# Altium integrated library National Semiconductor MiscPower.IntLib: 1552 symbols (part 26 of 43)
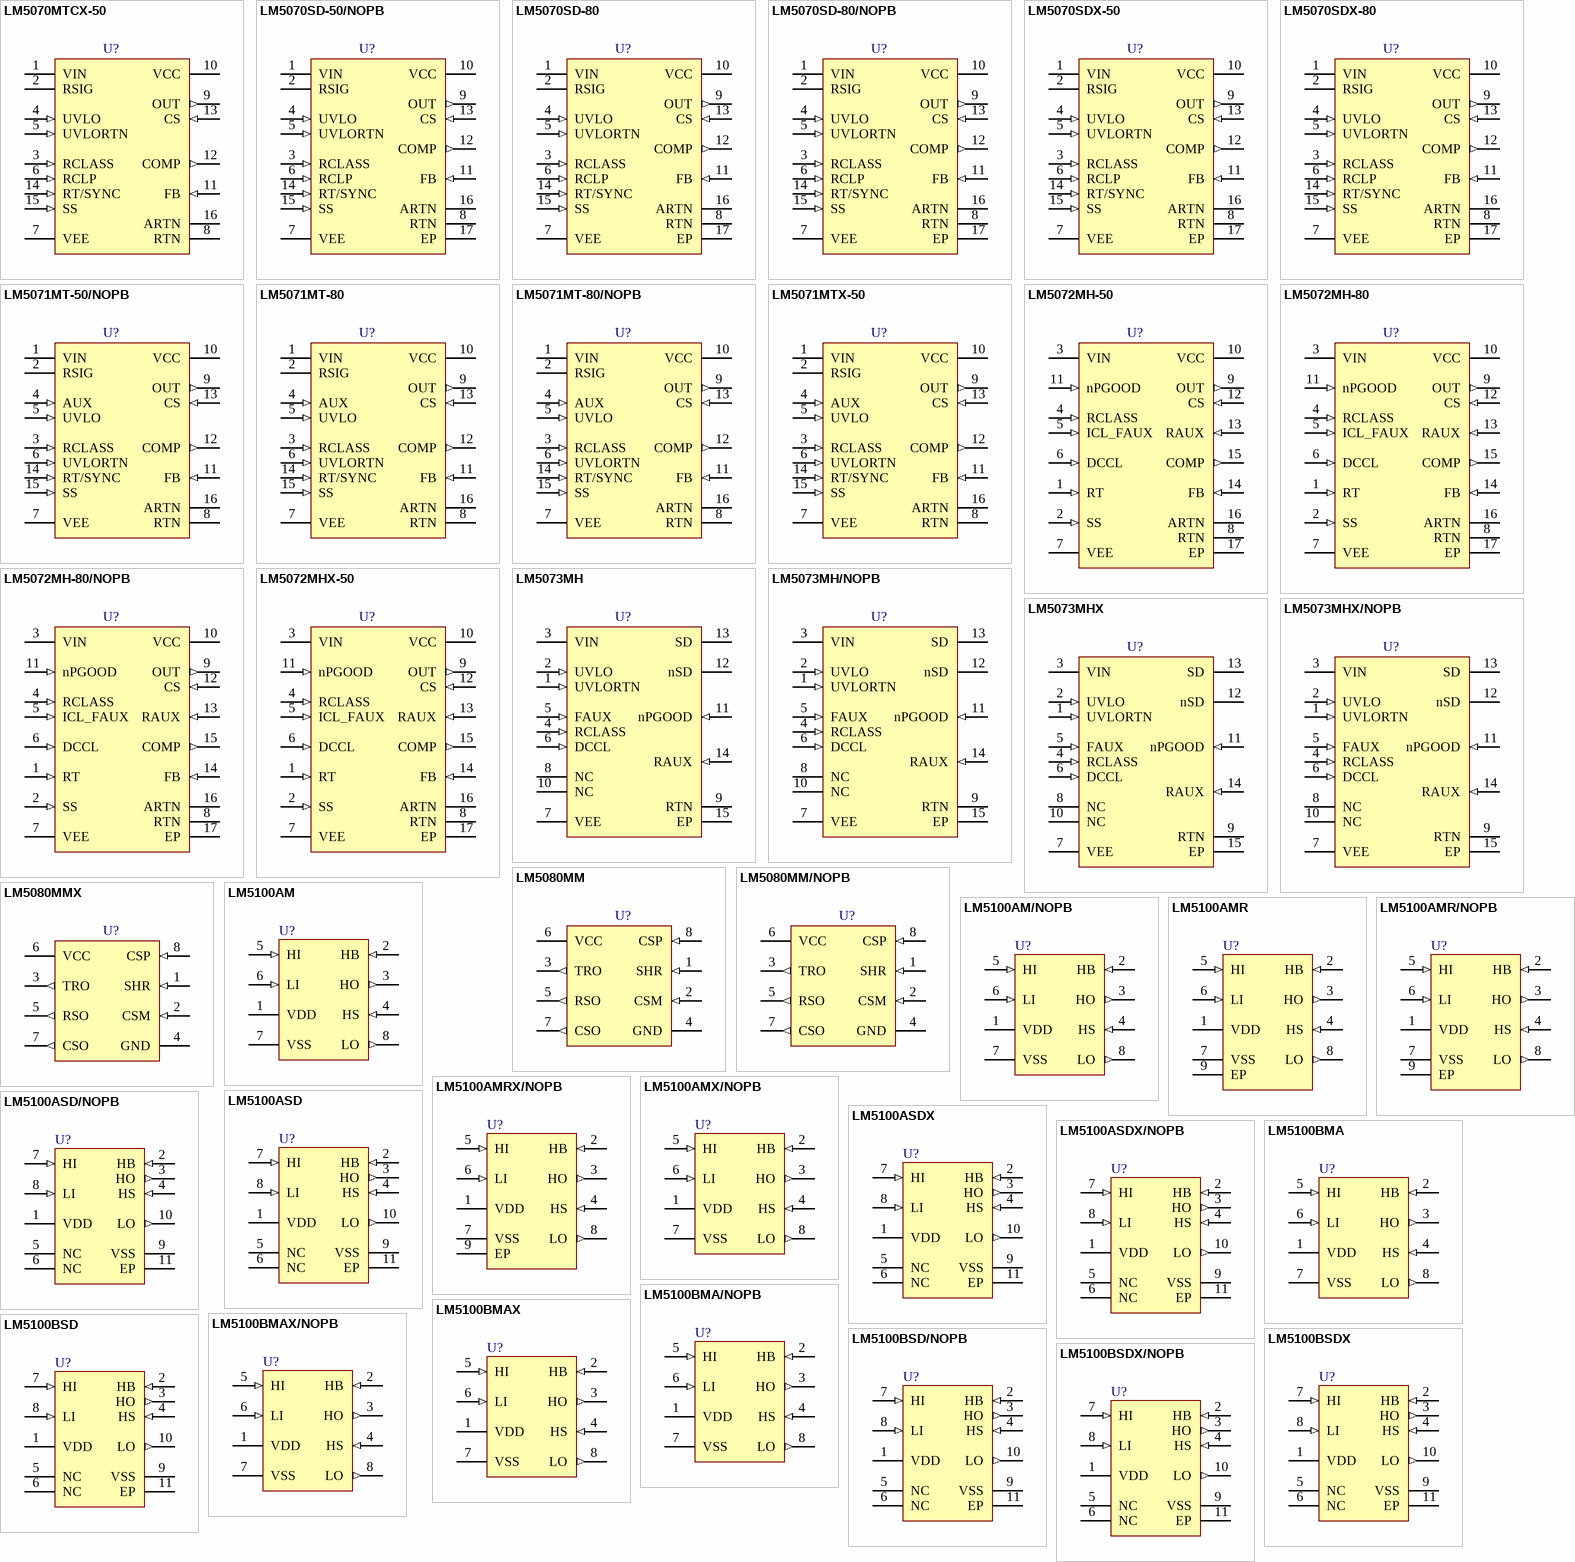
[diagram p82: symbols LM5070MTCX-50 to LM5100BSDX/NOPB]

## LM5073MHX
designator U?
100V Power Over Ethernet PD Interface with Aux Support, 14-pin TSSOP-EP; PartNumber: LM5073MHX; Manufacturer: National Semiconductor; PackageTopMarking: NSUZXYTT*LM5073*MH; PowerWise: Y; CompType: MiscPower; DatasheetVersion: Feb-2010; PackageVersion: revA, Feb-2003; PackageReference: MXA14A; PackageDescription: Molded TSSOP, JEDEC, Exposed Pad, 5.0 x 4.4 x 0.9mm Body, 14 Lead, 0.65mm Pitch; RoHS: N; PinCount: 14; High-Reliability: Y; Code_JEDEC: MO-153-ABT-1; ComponentLink1Description: Manufacturer URL; ComponentLink1URL: http://www.national.com/; ComponentLink2Description: LM5073 Datasheet; ComponentLink2URL: http://www.national.com/ds/LM/LM5073.pdf; ComponentLink3Description: LM5073 Web Page; ComponentLink3URL: http://www.national.com/pf/LM/LM5073.html; ComponentLink4Description: MXA14A Package Page; ComponentLink4URL: http://www.national.com/packaging/folders/mxa14a.html
footprint MXA14A_N (TSOP, 14-Leads, Body 5x4.4mm, Pitch 0.65mm, Thermal Pad, IPC Medium Density)
footprint MXA14A_L (TSOP, 14-Leads, Body 5x4.4mm, Pitch 0.65mm, Thermal Pad, IPC High Density)
footprint MXA14A_M (TSOP, 14-Leads, Body 5x4.4mm, Pitch 0.65mm, Thermal Pad, IPC Low Density)
pins: 1 UVLORTN (in) "Return for the external UVLO programming resistor divider.", 2 UVLO (in) "Line under-voltage lockout programming pin.", 3 VIN (power) "Positive supply pin for the PD interface and the DC-DC converter interface.", 4 RCLASS (in) "PD classification programming pin.", 5 FAUX (in) "Front auxiliary power enable pin.", 6 DCCL (in) "PD interface DC current limit programming pin.", 7 VEE (power) "Negative supply pin for PD interface; connected to PoE and/or front auxiliary power return path.", 8 NC "No internal connection.", 9 RTN (power) "DC-DC converter power return.", 10 NC "No internal connection.", 11 nPGOOD (in) "PD interface Power Good indicator and delay timer pin.", 12 nSD (oc) "Open drain, active low shut down signal to the DC-DC converter.", 13 SD (oc) "Open drain, active high shut down signal to the DC-DC converter.", 14 RAUX (in) "Rear auxiliary power enable pin, and dominant/non-dominant selection.", 15 EP (power) "Exposed metal pad on the underside of the device."

## LM5073MHX/NOPB
designator U?
100V Power Over Ethernet PD Interface with Aux Support, 14-pin TSSOP-EP, Pb-Free; PartNumber: LM5073MHX/NOPB; Manufacturer: National Semiconductor; PackageTopMarking: NSUZXYTT*LM5073*MH; PowerWise: Y; CompType: MiscPower; DatasheetVersion: Feb-2010; PackageVersion: revA, Feb-2003; PackageReference: MXA14A; PackageDescription: Molded TSSOP, JEDEC, Exposed Pad, 5.0 x 4.4 x 0.9mm Body, 14 Lead, 0.65mm Pitch; RoHS: Y; PinCount: 14; High-Reliability: Y; Code_JEDEC: MO-153-ABT-1; ComponentLink1Description: Manufacturer URL; ComponentLink1URL: http://www.national.com/; ComponentLink2Description: LM5073 Datasheet; ComponentLink2URL: http://www.national.com/ds/LM/LM5073.pdf; ComponentLink3Description: LM5073 Web Page; ComponentLink3URL: http://www.national.com/pf/LM/LM5073.html; ComponentLink4Description: MXA14A Package Page; ComponentLink4URL: http://www.national.com/packaging/folders/mxa14a.html
footprint MXA14A_N (TSOP, 14-Leads, Body 5x4.4mm, Pitch 0.65mm, Thermal Pad, IPC Medium Density)
footprint MXA14A_L (TSOP, 14-Leads, Body 5x4.4mm, Pitch 0.65mm, Thermal Pad, IPC High Density)
footprint MXA14A_M (TSOP, 14-Leads, Body 5x4.4mm, Pitch 0.65mm, Thermal Pad, IPC Low Density)
pins: 1 UVLORTN (in) "Return for the external UVLO programming resistor divider.", 2 UVLO (in) "Line under-voltage lockout programming pin.", 3 VIN (power) "Positive supply pin for the PD interface and the DC-DC converter interface.", 4 RCLASS (in) "PD classification programming pin.", 5 FAUX (in) "Front auxiliary power enable pin.", 6 DCCL (in) "PD interface DC current limit programming pin.", 7 VEE (power) "Negative supply pin for PD interface; connected to PoE and/or front auxiliary power return path.", 8 NC "No internal connection.", 9 RTN (power) "DC-DC converter power return.", 10 NC "No internal connection.", 11 nPGOOD (in) "PD interface Power Good indicator and delay timer pin.", 12 nSD (oc) "Open drain, active low shut down signal to the DC-DC converter.", 13 SD (oc) "Open drain, active high shut down signal to the DC-DC converter.", 14 RAUX (in) "Rear auxiliary power enable pin, and dominant/non-dominant selection.", 15 EP (power) "Exposed metal pad on the underside of the device."

## LM5080MM
designator U?
Modular Current Sharing Controller, 8-pin MSOP; PartNumber: LM5080MM; Manufacturer: National Semiconductor; PackageTopMarking: ZXTT*SHUB; PowerWise: N; CompType: MiscPower; High-Reliability: Y; DatasheetVersion: Jan-2006; PackageVersion: revF, Apr-2008; PackageReference: MUA08A; PackageDescription: MINI SOIC, .118 x .118 x .034in, 8 Lead, .0256in Pitch; RoHS: N; PinCount: 8; Code_JEDEC: MO-187-AA; ComponentLink1Description: Manufacturer URL; ComponentLink1URL: http://www.national.com/; ComponentLink2Description: LM5080 Datasheet; ComponentLink2URL: http://www.national.com/ds/LM/LM5080.pdf; ComponentLink3Description: LM5080 Web Page; ComponentLink3URL: http://www.national.com/pf/LM/LM5080.html; ComponentLink4Description: MUA08A Package Page; ComponentLink4URL: http://www.national.com/packaging/folders/mua08a.html
footprint MUA08A_N (TSOP, 8-Leads, Body 3x3mm, Pitch 0.65mm, IPC Medium Density)
footprint MUA08A_L (TSOP, 8-Leads, Body 3x3mm, Pitch 0.65mm, IPC High Density)
footprint MUA08A_M (TSOP, 8-Leads, Body 3x3mm, Pitch 0.65mm, IPC Low Density)
pins: 1 SHR (in), 2 CSM (in), 3 TRO (out), 4 GND (power), 5 RSO (out), 6 VCC (power), 7 CSO (out), 8 CSP (in)

## LM5080MM/NOPB
designator U?
Modular Current Sharing Controller, 8-pin MSOP, Pb-Free; PartNumber: LM5080MM/NOPB; Manufacturer: National Semiconductor; PackageTopMarking: ZXTT*SHUB; PowerWise: N; CompType: MiscPower; High-Reliability: Y; DatasheetVersion: Jan-2006; PackageVersion: revF, Apr-2008; PackageReference: MUA08A; PackageDescription: MINI SOIC, .118 x .118 x .034in, 8 Lead, .0256in Pitch; RoHS: Y; PinCount: 8; Code_JEDEC: MO-187-AA; ComponentLink1Description: Manufacturer URL; ComponentLink1URL: http://www.national.com/; ComponentLink2Description: LM5080 Datasheet; ComponentLink2URL: http://www.national.com/ds/LM/LM5080.pdf; ComponentLink3Description: LM5080 Web Page; ComponentLink3URL: http://www.national.com/pf/LM/LM5080.html; ComponentLink4Description: MUA08A Package Page; ComponentLink4URL: http://www.national.com/packaging/folders/mua08a.html
footprint MUA08A_N (TSOP, 8-Leads, Body 3x3mm, Pitch 0.65mm, IPC Medium Density)
footprint MUA08A_L (TSOP, 8-Leads, Body 3x3mm, Pitch 0.65mm, IPC High Density)
footprint MUA08A_M (TSOP, 8-Leads, Body 3x3mm, Pitch 0.65mm, IPC Low Density)
pins: 1 SHR (in), 2 CSM (in), 3 TRO (out), 4 GND (power), 5 RSO (out), 6 VCC (power), 7 CSO (out), 8 CSP (in)

## LM5080MMX
designator U?
Modular Current Sharing Controller, 8-pin MSOP; PartNumber: LM5080MMX; Manufacturer: National Semiconductor; PackageTopMarking: ZXTT*SHUB; PowerWise: N; CompType: MiscPower; High-Reliability: Y; DatasheetVersion: Jan-2006; PackageVersion: revF, Apr-2008; PackageReference: MUA08A; PackageDescription: MINI SOIC, .118 x .118 x .034in, 8 Lead, .0256in Pitch; RoHS: N; PinCount: 8; Code_JEDEC: MO-187-AA; ComponentLink1Description: Manufacturer URL; ComponentLink1URL: http://www.national.com/; ComponentLink2Description: LM5080 Datasheet; ComponentLink2URL: http://www.national.com/ds/LM/LM5080.pdf; ComponentLink3Description: LM5080 Web Page; ComponentLink3URL: http://www.national.com/pf/LM/LM5080.html; ComponentLink4Description: MUA08A Package Page; ComponentLink4URL: http://www.national.com/packaging/folders/mua08a.html
footprint MUA08A_N (TSOP, 8-Leads, Body 3x3mm, Pitch 0.65mm, IPC Medium Density)
footprint MUA08A_L (TSOP, 8-Leads, Body 3x3mm, Pitch 0.65mm, IPC High Density)
footprint MUA08A_M (TSOP, 8-Leads, Body 3x3mm, Pitch 0.65mm, IPC Low Density)
pins: 1 SHR (in), 2 CSM (in), 3 TRO (out), 4 GND (power), 5 RSO (out), 6 VCC (power), 7 CSO (out), 8 CSP (in)

## LM5100AM
designator U?
3A High Voltage High-Side and Low-Side Gate Driver, 8-pin Narrow SOIC; PartNumber: LM5100AM; Manufacturer: National Semiconductor; PackageTopMarking: NSZXTT*L5100*AM; PowerWise: N; CompType: MiscPower; High-Reliability: Y; DatasheetVersion: Jun-2009; PackageVersion: revM, May-2009; PackageReference: M08A; PackageDescription: SOIC Narrow, 4.9 x 3.9 x 1.45mm, 8 Lead, 1.27mm Pitch; RoHS: N; PinCount: 8; Code_JEDEC: MS-012-AA; Code_IPC: SOIC127P600-8; ComponentLink1Description: Manufacturer URL; ComponentLink1URL: http://www.national.com/; ComponentLink2Description: LM5100A Datasheet; ComponentLink2URL: http://www.national.com/ds/LM/LM5100A.pdf; ComponentLink3Description: LM5100A Web Page; ComponentLink3URL: http://www.national.com/pf/LM/LM5100A.html; ComponentLink4Description: M08A Package Page; ComponentLink4URL: http://www.national.com/packaging/folders/m08a.html
footprint M08A_N (SOIC, 8-Leads, Body 4.9x3.9mm, Pitch 1.27mm, IPC Medium Density)
footprint M08A_L (SOIC, 8-Leads, Body 4.9x3.9mm, Pitch 1.27mm, IPC High Density)
footprint M08A_M (SOIC, 8-Leads, Body 4.9x3.9mm, Pitch 1.27mm, IPC Low Density)
pins: 1 VDD (power), 2 HB (in), 3 HO (out), 4 HS (in), 5 HI (in), 6 LI (in), 7 VSS (power), 8 LO (out)

## LM5100AM/NOPB
designator U?
3A High Voltage High-Side and Low-Side Gate Driver, 8-pin Narrow SOIC, Pb-Free; PartNumber: LM5100AM/NOPB; Manufacturer: National Semiconductor; PackageTopMarking: NSZXTT*L5100*AM; PowerWise: N; CompType: MiscPower; High-Reliability: Y; DatasheetVersion: Jun-2009; PackageVersion: revM, May-2009; PackageReference: M08A; PackageDescription: SOIC Narrow, 4.9 x 3.9 x 1.45mm, 8 Lead, 1.27mm Pitch; RoHS: Y; PinCount: 8; Code_JEDEC: MS-012-AA; Code_IPC: SOIC127P600-8; ComponentLink1Description: Manufacturer URL; ComponentLink1URL: http://www.national.com/; ComponentLink2Description: LM5100A Datasheet; ComponentLink2URL: http://www.national.com/ds/LM/LM5100A.pdf; ComponentLink3Description: LM5100A Web Page; ComponentLink3URL: http://www.national.com/pf/LM/LM5100A.html; ComponentLink4Description: M08A Package Page; ComponentLink4URL: http://www.national.com/packaging/folders/m08a.html
footprint M08A_N (SOIC, 8-Leads, Body 4.9x3.9mm, Pitch 1.27mm, IPC Medium Density)
footprint M08A_L (SOIC, 8-Leads, Body 4.9x3.9mm, Pitch 1.27mm, IPC High Density)
footprint M08A_M (SOIC, 8-Leads, Body 4.9x3.9mm, Pitch 1.27mm, IPC Low Density)
pins: 1 VDD (power), 2 HB (in), 3 HO (out), 4 HS (in), 5 HI (in), 6 LI (in), 7 VSS (power), 8 LO (out)

## LM5100AMR
designator U?
3A High Voltage High-Side and Low-Side Gate Driver, 8-pin PSOP; PartNumber: LM5100AMR; Manufacturer: National Semiconductor; PackageTopMarking: NSXYTT*L5100*AMR; PowerWise: N; CompType: MiscPower; High-Reliability: Y; DatasheetVersion: Jun-2009; PackageVersion: revD, Dec-2007; PackageReference: MRA08A; PackageDescription: Molded, PSOP .193 x .154 x .058in, 8 Lead, .050in Pitch; RoHS: Y; PinCount: 8; Code_JEDEC: MS-012-AA; ComponentLink1Description: Manufacturer URL; ComponentLink1URL: http://www.national.com/; ComponentLink2Description: LM5100A Datasheet; ComponentLink2URL: http://www.national.com/ds/LM/LM5100A.pdf; ComponentLink3Description: LM5100A Web Page; ComponentLink3URL: http://www.national.com/pf/LM/LM5100A.html; ComponentLink4Description: MRA08A Package Page; ComponentLink4URL: http://www.national.com/packaging/folders/mra08a.html
footprint MRA08A_N (SOIC, 8-Leads, Body 4.9x3.9mm, Pitch 1.27mm, Thermal Pad, IPC Medium Density)
footprint MRA08A_L (SOIC, 8-Leads, Body 4.9x3.9mm, Pitch 1.27mm, Thermal Pad, IPC High Density)
footprint MRA08A_M (SOIC, 8-Leads, Body 4.9x3.9mm, Pitch 1.27mm, Thermal Pad, IPC Low Density)
pins: 1 VDD (power), 2 HB (in), 3 HO (out), 4 HS (in), 5 HI (in), 6 LI (in), 7 VSS (power), 8 LO (out), 9 EP (power)

## LM5100AMR/NOPB
designator U?
3A High Voltage High-Side and Low-Side Gate Driver, 8-pin PSOP, Pb-Free; PartNumber: LM5100AMR/NOPB; Manufacturer: National Semiconductor; PackageTopMarking: NSXYTT*L5100*AMR; PowerWise: N; CompType: MiscPower; High-Reliability: Y; DatasheetVersion: Jun-2009; PackageVersion: revD, Dec-2007; PackageReference: MRA08A; PackageDescription: Molded, PSOP .193 x .154 x .058in, 8 Lead, .050in Pitch; RoHS: Y; PinCount: 8; Code_JEDEC: MS-012-AA; ComponentLink1Description: Manufacturer URL; ComponentLink1URL: http://www.national.com/; ComponentLink2Description: LM5100A Datasheet; ComponentLink2URL: http://www.national.com/ds/LM/LM5100A.pdf; ComponentLink3Description: LM5100A Web Page; ComponentLink3URL: http://www.national.com/pf/LM/LM5100A.html; ComponentLink4Description: MRA08A Package Page; ComponentLink4URL: http://www.national.com/packaging/folders/mra08a.html
footprint MRA08A_N (SOIC, 8-Leads, Body 4.9x3.9mm, Pitch 1.27mm, Thermal Pad, IPC Medium Density)
footprint MRA08A_L (SOIC, 8-Leads, Body 4.9x3.9mm, Pitch 1.27mm, Thermal Pad, IPC High Density)
footprint MRA08A_M (SOIC, 8-Leads, Body 4.9x3.9mm, Pitch 1.27mm, Thermal Pad, IPC Low Density)
pins: 1 VDD (power), 2 HB (in), 3 HO (out), 4 HS (in), 5 HI (in), 6 LI (in), 7 VSS (power), 8 LO (out), 9 EP (power)

## LM5100AMRX/NOPB
designator U?
3A High Voltage High-Side and Low-Side Gate Driver, 8-pin PSOP, Pb-Free; PartNumber: LM5100AMRX/NOPB; Manufacturer: National Semiconductor; PackageTopMarking: NSXYTT*L5100*AMR; PowerWise: N; CompType: MiscPower; High-Reliability: Y; DatasheetVersion: Jun-2009; PackageVersion: revD, Dec-2007; PackageReference: MRA08A; PackageDescription: Molded, PSOP .193 x .154 x .058in, 8 Lead, .050in Pitch; RoHS: Y; PinCount: 8; Code_JEDEC: MS-012-AA; ComponentLink1Description: Manufacturer URL; ComponentLink1URL: http://www.national.com/; ComponentLink2Description: LM5100A Datasheet; ComponentLink2URL: http://www.national.com/ds/LM/LM5100A.pdf; ComponentLink3Description: LM5100A Web Page; ComponentLink3URL: http://www.national.com/pf/LM/LM5100A.html; ComponentLink4Description: MRA08A Package Page; ComponentLink4URL: http://www.national.com/packaging/folders/mra08a.html
footprint MRA08A_N (SOIC, 8-Leads, Body 4.9x3.9mm, Pitch 1.27mm, Thermal Pad, IPC Medium Density)
footprint MRA08A_L (SOIC, 8-Leads, Body 4.9x3.9mm, Pitch 1.27mm, Thermal Pad, IPC High Density)
footprint MRA08A_M (SOIC, 8-Leads, Body 4.9x3.9mm, Pitch 1.27mm, Thermal Pad, IPC Low Density)
pins: 1 VDD (power), 2 HB (in), 3 HO (out), 4 HS (in), 5 HI (in), 6 LI (in), 7 VSS (power), 8 LO (out), 9 EP (power)

## LM5100AMX/NOPB
designator U?
3A High Voltage High-Side and Low-Side Gate Driver, 8-pin Narrow SOIC, Pb-Free; PartNumber: LM5100AMX/NOPB; Manufacturer: National Semiconductor; PackageTopMarking: NSZXTT*L5100*AM; PowerWise: N; CompType: MiscPower; High-Reliability: Y; DatasheetVersion: Jun-2009; PackageVersion: revM, May-2009; PackageReference: M08A; PackageDescription: SOIC Narrow, 4.9 x 3.9 x 1.45mm, 8 Lead, 1.27mm Pitch; RoHS: Y; PinCount: 8; Code_JEDEC: MS-012-AA; Code_IPC: SOIC127P600-8; ComponentLink1Description: Manufacturer URL; ComponentLink1URL: http://www.national.com/; ComponentLink2Description: LM5100A Datasheet; ComponentLink2URL: http://www.national.com/ds/LM/LM5100A.pdf; ComponentLink3Description: LM5100A Web Page; ComponentLink3URL: http://www.national.com/pf/LM/LM5100A.html; ComponentLink4Description: M08A Package Page; ComponentLink4URL: http://www.national.com/packaging/folders/m08a.html
footprint M08A_N (SOIC, 8-Leads, Body 4.9x3.9mm, Pitch 1.27mm, IPC Medium Density)
footprint M08A_L (SOIC, 8-Leads, Body 4.9x3.9mm, Pitch 1.27mm, IPC High Density)
footprint M08A_M (SOIC, 8-Leads, Body 4.9x3.9mm, Pitch 1.27mm, IPC Low Density)
pins: 1 VDD (power), 2 HB (in), 3 HO (out), 4 HS (in), 5 HI (in), 6 LI (in), 7 VSS (power), 8 LO (out)

## LM5100ASD
designator U?
3A High Voltage High-Side and Low-Side Gate Driver, 10-pin LLP; PartNumber: LM5100ASD; Manufacturer: National Semiconductor; PackageTopMarking: NS*UZXYTT*5100ASD; PowerWise: N; CompType: MiscPower; High-Reliability: Y; DatasheetVersion: Jun-2009; PackageVersion: revA, May-2003; PackageReference: SDC10A; PackageDescription: LLP, Plastic, Dual, 4 x 4 x 0.8mm Body, 10 Lead, 0.8mm Pitch, No Pullback; RoHS: N; PinCount: 10; ComponentLink1Description: Manufacturer URL; ComponentLink1URL: http://www.national.com/; ComponentLink2Description: LM5100A Datasheet; ComponentLink2URL: http://www.national.com/ds/LM/LM5100A.pdf; ComponentLink3Description: LM5100A Web Page; ComponentLink3URL: http://www.national.com/pf/LM/LM5100A.html; ComponentLink4Description: SDC10A Package Page; ComponentLink4URL: http://www.national.com/packaging/folders/sdc10a.html
footprint SDC10A (SON, 10-Leads, Body 4x4 mm, Pitch 0.8mm, NSC Recommended)
pins: 1 VDD (power), 2 HB (in), 3 HO (out), 4 HS (in), 5 NC, 6 NC, 7 HI (in), 8 LI (in), 9 VSS (power), 10 LO (out), 11 EP (power)

## LM5100ASD/NOPB
designator U?
3A High Voltage High-Side and Low-Side Gate Driver, 10-pin LLP, Pb-Free; PartNumber: LM5100ASD/NOPB; Manufacturer: National Semiconductor; PackageTopMarking: NS*UZXYTT*5100ASD; PowerWise: N; CompType: MiscPower; High-Reliability: Y; DatasheetVersion: Jun-2009; PackageVersion: revA, May-2003; PackageReference: SDC10A; PackageDescription: LLP, Plastic, Dual, 4 x 4 x 0.8mm Body, 10 Lead, 0.8mm Pitch, No Pullback; RoHS: Y; PinCount: 10; ComponentLink1Description: Manufacturer URL; ComponentLink1URL: http://www.national.com/; ComponentLink2Description: LM5100A Datasheet; ComponentLink2URL: http://www.national.com/ds/LM/LM5100A.pdf; ComponentLink3Description: LM5100A Web Page; ComponentLink3URL: http://www.national.com/pf/LM/LM5100A.html; ComponentLink4Description: SDC10A Package Page; ComponentLink4URL: http://www.national.com/packaging/folders/sdc10a.html
footprint SDC10A (SON, 10-Leads, Body 4x4 mm, Pitch 0.8mm, NSC Recommended)
pins: 1 VDD (power), 2 HB (in), 3 HO (out), 4 HS (in), 5 NC, 6 NC, 7 HI (in), 8 LI (in), 9 VSS (power), 10 LO (out), 11 EP (power)

## LM5100ASDX
designator U?
3A High Voltage High-Side and Low-Side Gate Driver, 10-pin LLP; PartNumber: LM5100ASDX; Manufacturer: National Semiconductor; PackageTopMarking: NS*UZXYTT*5100ASD; PowerWise: N; CompType: MiscPower; High-Reliability: Y; DatasheetVersion: Jun-2009; PackageVersion: revA, May-2003; PackageReference: SDC10A; PackageDescription: LLP, Plastic, Dual, 4 x 4 x 0.8mm Body, 10 Lead, 0.8mm Pitch, No Pullback; RoHS: N; PinCount: 10; ComponentLink1Description: Manufacturer URL; ComponentLink1URL: http://www.national.com/; ComponentLink2Description: LM5100A Datasheet; ComponentLink2URL: http://www.national.com/ds/LM/LM5100A.pdf; ComponentLink3Description: LM5100A Web Page; ComponentLink3URL: http://www.national.com/pf/LM/LM5100A.html; ComponentLink4Description: SDC10A Package Page; ComponentLink4URL: http://www.national.com/packaging/folders/sdc10a.html
footprint SDC10A (SON, 10-Leads, Body 4x4 mm, Pitch 0.8mm, NSC Recommended)
pins: 1 VDD (power), 2 HB (in), 3 HO (out), 4 HS (in), 5 NC, 6 NC, 7 HI (in), 8 LI (in), 9 VSS (power), 10 LO (out), 11 EP (power)

## LM5100ASDX/NOPB
designator U?
3A High Voltage High-Side and Low-Side Gate Driver, 10-pin LLP, Pb-Free; PartNumber: LM5100ASDX/NOPB; Manufacturer: National Semiconductor; PackageTopMarking: NS*UZXYTT*5100ASD; PowerWise: N; CompType: MiscPower; High-Reliability: Y; DatasheetVersion: Jun-2009; PackageVersion: revA, May-2003; PackageReference: SDC10A; PackageDescription: LLP, Plastic, Dual, 4 x 4 x 0.8mm Body, 10 Lead, 0.8mm Pitch, No Pullback; RoHS: Y; PinCount: 10; ComponentLink1Description: Manufacturer URL; ComponentLink1URL: http://www.national.com/; ComponentLink2Description: LM5100A Datasheet; ComponentLink2URL: http://www.national.com/ds/LM/LM5100A.pdf; ComponentLink3Description: LM5100A Web Page; ComponentLink3URL: http://www.national.com/pf/LM/LM5100A.html; ComponentLink4Description: SDC10A Package Page; ComponentLink4URL: http://www.national.com/packaging/folders/sdc10a.html
footprint SDC10A (SON, 10-Leads, Body 4x4 mm, Pitch 0.8mm, NSC Recommended)
pins: 1 VDD (power), 2 HB (in), 3 HO (out), 4 HS (in), 5 NC, 6 NC, 7 HI (in), 8 LI (in), 9 VSS (power), 10 LO (out), 11 EP (power)

## LM5100BMA
designator U?
2A High Voltage High-Side and Low-Side Gate Driver, 8-pin Narrow SOIC; PartNumber: LM5100BMA; Manufacturer: National Semiconductor; PackageTopMarking: NSZXTT*L5100*BMA; PowerWise: N; CompType: MiscPower; High-Reliability: Y; DatasheetVersion: Jun-2009; PackageVersion: revM, May-2009; PackageReference: M08A; PackageDescription: SOIC Narrow, 4.9 x 3.9 x 1.45mm, 8 Lead, 1.27mm Pitch; RoHS: N; PinCount: 8; Code_JEDEC: MS-012-AA; Code_IPC: SOIC127P600-8; ComponentLink1Description: Manufacturer URL; ComponentLink1URL: http://www.national.com/; ComponentLink2Description: LM5100B Datasheet; ComponentLink2URL: http://www.national.com/ds/LM/LM5100B.pdf; ComponentLink3Description: LM5100B Web Page; ComponentLink3URL: http://www.national.com/pf/LM/LM5100B.html; ComponentLink4Description: M08A Package Page; ComponentLink4URL: http://www.national.com/packaging/folders/m08a.html
footprint M08A_N (SOIC, 8-Leads, Body 4.9x3.9mm, Pitch 1.27mm, IPC Medium Density)
footprint M08A_L (SOIC, 8-Leads, Body 4.9x3.9mm, Pitch 1.27mm, IPC High Density)
footprint M08A_M (SOIC, 8-Leads, Body 4.9x3.9mm, Pitch 1.27mm, IPC Low Density)
pins: 1 VDD (power), 2 HB (in), 3 HO (out), 4 HS (in), 5 HI (in), 6 LI (in), 7 VSS (power), 8 LO (out)

## LM5100BMA/NOPB
designator U?
2A High Voltage High-Side and Low-Side Gate Driver, 8-pin Narrow SOIC, Pb-Free; PartNumber: LM5100BMA/NOPB; Manufacturer: National Semiconductor; PackageTopMarking: NSZXTT*L5100*BMA; PowerWise: N; CompType: MiscPower; High-Reliability: Y; DatasheetVersion: Jun-2009; PackageVersion: revM, May-2009; PackageReference: M08A; PackageDescription: SOIC Narrow, 4.9 x 3.9 x 1.45mm, 8 Lead, 1.27mm Pitch; RoHS: Y; PinCount: 8; Code_JEDEC: MS-012-AA; Code_IPC: SOIC127P600-8; ComponentLink1Description: Manufacturer URL; ComponentLink1URL: http://www.national.com/; ComponentLink2Description: LM5100B Datasheet; ComponentLink2URL: http://www.national.com/ds/LM/LM5100B.pdf; ComponentLink3Description: LM5100B Web Page; ComponentLink3URL: http://www.national.com/pf/LM/LM5100B.html; ComponentLink4Description: M08A Package Page; ComponentLink4URL: http://www.national.com/packaging/folders/m08a.html
footprint M08A_N (SOIC, 8-Leads, Body 4.9x3.9mm, Pitch 1.27mm, IPC Medium Density)
footprint M08A_L (SOIC, 8-Leads, Body 4.9x3.9mm, Pitch 1.27mm, IPC High Density)
footprint M08A_M (SOIC, 8-Leads, Body 4.9x3.9mm, Pitch 1.27mm, IPC Low Density)
pins: 1 VDD (power), 2 HB (in), 3 HO (out), 4 HS (in), 5 HI (in), 6 LI (in), 7 VSS (power), 8 LO (out)

## LM5100BMAX
designator U?
2A High Voltage High-Side and Low-Side Gate Driver, 8-pin Narrow SOIC; PartNumber: LM5100BMAX; Manufacturer: National Semiconductor; PackageTopMarking: NSZXTT*L5100*BMA; PowerWise: N; CompType: MiscPower; High-Reliability: Y; DatasheetVersion: Jun-2009; PackageVersion: revM, May-2009; PackageReference: M08A; PackageDescription: SOIC Narrow, 4.9 x 3.9 x 1.45mm, 8 Lead, 1.27mm Pitch; RoHS: N; PinCount: 8; Code_JEDEC: MS-012-AA; Code_IPC: SOIC127P600-8; ComponentLink1Description: Manufacturer URL; ComponentLink1URL: http://www.national.com/; ComponentLink2Description: LM5100B Datasheet; ComponentLink2URL: http://www.national.com/ds/LM/LM5100B.pdf; ComponentLink3Description: LM5100B Web Page; ComponentLink3URL: http://www.national.com/pf/LM/LM5100B.html; ComponentLink4Description: M08A Package Page; ComponentLink4URL: http://www.national.com/packaging/folders/m08a.html
footprint M08A_N (SOIC, 8-Leads, Body 4.9x3.9mm, Pitch 1.27mm, IPC Medium Density)
footprint M08A_L (SOIC, 8-Leads, Body 4.9x3.9mm, Pitch 1.27mm, IPC High Density)
footprint M08A_M (SOIC, 8-Leads, Body 4.9x3.9mm, Pitch 1.27mm, IPC Low Density)
pins: 1 VDD (power), 2 HB (in), 3 HO (out), 4 HS (in), 5 HI (in), 6 LI (in), 7 VSS (power), 8 LO (out)

## LM5100BMAX/NOPB
designator U?
2A High Voltage High-Side and Low-Side Gate Driver, 8-pin Narrow SOIC, Pb-Free; PartNumber: LM5100BMAX/NOPB; Manufacturer: National Semiconductor; PackageTopMarking: NSZXTT*L5100*BMA; PowerWise: N; CompType: MiscPower; High-Reliability: Y; DatasheetVersion: Jun-2009; PackageVersion: revM, May-2009; PackageReference: M08A; PackageDescription: SOIC Narrow, 4.9 x 3.9 x 1.45mm, 8 Lead, 1.27mm Pitch; RoHS: Y; PinCount: 8; Code_JEDEC: MS-012-AA; Code_IPC: SOIC127P600-8; ComponentLink1Description: Manufacturer URL; ComponentLink1URL: http://www.national.com/; ComponentLink2Description: LM5100B Datasheet; ComponentLink2URL: http://www.national.com/ds/LM/LM5100B.pdf; ComponentLink3Description: LM5100B Web Page; ComponentLink3URL: http://www.national.com/pf/LM/LM5100B.html; ComponentLink4Description: M08A Package Page; ComponentLink4URL: http://www.national.com/packaging/folders/m08a.html
footprint M08A_N (SOIC, 8-Leads, Body 4.9x3.9mm, Pitch 1.27mm, IPC Medium Density)
footprint M08A_L (SOIC, 8-Leads, Body 4.9x3.9mm, Pitch 1.27mm, IPC High Density)
footprint M08A_M (SOIC, 8-Leads, Body 4.9x3.9mm, Pitch 1.27mm, IPC Low Density)
pins: 1 VDD (power), 2 HB (in), 3 HO (out), 4 HS (in), 5 HI (in), 6 LI (in), 7 VSS (power), 8 LO (out)

## LM5100BSD
designator U?
2A High Voltage High-Side and Low-Side Gate Driver, 10-pin LLP; PartNumber: LM5100BSD; Manufacturer: National Semiconductor; PackageTopMarking: NS*UZXYTT*5100BSD; PowerWise: N; CompType: MiscPower; High-Reliability: Y; DatasheetVersion: Jun-2009; PackageVersion: revA, May-2003; PackageReference: SDC10A; PackageDescription: LLP, Plastic, Dual, 4 x 4 x 0.8mm Body, 10 Lead, 0.8mm Pitch, No Pullback; RoHS: N; PinCount: 10; ComponentLink1Description: Manufacturer URL; ComponentLink1URL: http://www.national.com/; ComponentLink2Description: LM5100B Datasheet; ComponentLink2URL: http://www.national.com/ds/LM/LM5100B.pdf; ComponentLink3Description: LM5100B Web Page; ComponentLink3URL: http://www.national.com/pf/LM/LM5100B.html; ComponentLink4Description: SDC10A Package Page; ComponentLink4URL: http://www.national.com/packaging/folders/sdc10a.html
footprint SDC10A (SON, 10-Leads, Body 4x4 mm, Pitch 0.8mm, NSC Recommended)
pins: 1 VDD (power), 2 HB (in), 3 HO (out), 4 HS (in), 5 NC, 6 NC, 7 HI (in), 8 LI (in), 9 VSS (power), 10 LO (out), 11 EP (power)

## LM5100BSD/NOPB
designator U?
2A High Voltage High-Side and Low-Side Gate Driver, 10-pin LLP, Pb-Free; PartNumber: LM5100BSD/NOPB; Manufacturer: National Semiconductor; PackageTopMarking: NS*UZXYTT*5100BSD; PowerWise: N; CompType: MiscPower; High-Reliability: Y; DatasheetVersion: Jun-2009; PackageVersion: revA, May-2003; PackageReference: SDC10A; PackageDescription: LLP, Plastic, Dual, 4 x 4 x 0.8mm Body, 10 Lead, 0.8mm Pitch, No Pullback; RoHS: Y; PinCount: 10; ComponentLink1Description: Manufacturer URL; ComponentLink1URL: http://www.national.com/; ComponentLink2Description: LM5100B Datasheet; ComponentLink2URL: http://www.national.com/ds/LM/LM5100B.pdf; ComponentLink3Description: LM5100B Web Page; ComponentLink3URL: http://www.national.com/pf/LM/LM5100B.html; ComponentLink4Description: SDC10A Package Page; ComponentLink4URL: http://www.national.com/packaging/folders/sdc10a.html
footprint SDC10A (SON, 10-Leads, Body 4x4 mm, Pitch 0.8mm, NSC Recommended)
pins: 1 VDD (power), 2 HB (in), 3 HO (out), 4 HS (in), 5 NC, 6 NC, 7 HI (in), 8 LI (in), 9 VSS (power), 10 LO (out), 11 EP (power)

## LM5100BSDX
designator U?
2A High Voltage High-Side and Low-Side Gate Driver, 10-pin LLP; PartNumber: LM5100BSDX; Manufacturer: National Semiconductor; PackageTopMarking: NS*UZXYTT*5100BSD; PowerWise: N; CompType: MiscPower; High-Reliability: Y; DatasheetVersion: Jun-2009; PackageVersion: revA, May-2003; PackageReference: SDC10A; PackageDescription: LLP, Plastic, Dual, 4 x 4 x 0.8mm Body, 10 Lead, 0.8mm Pitch, No Pullback; RoHS: N; PinCount: 10; ComponentLink1Description: Manufacturer URL; ComponentLink1URL: http://www.national.com/; ComponentLink2Description: LM5100B Datasheet; ComponentLink2URL: http://www.national.com/ds/LM/LM5100B.pdf; ComponentLink3Description: LM5100B Web Page; ComponentLink3URL: http://www.national.com/pf/LM/LM5100B.html; ComponentLink4Description: SDC10A Package Page; ComponentLink4URL: http://www.national.com/packaging/folders/sdc10a.html
footprint SDC10A (SON, 10-Leads, Body 4x4 mm, Pitch 0.8mm, NSC Recommended)
pins: 1 VDD (power), 2 HB (in), 3 HO (out), 4 HS (in), 5 NC, 6 NC, 7 HI (in), 8 LI (in), 9 VSS (power), 10 LO (out), 11 EP (power)

## LM5100BSDX/NOPB
designator U?
2A High Voltage High-Side and Low-Side Gate Driver, 10-pin LLP, Pb-Free; PartNumber: LM5100BSDX/NOPB; Manufacturer: National Semiconductor; PackageTopMarking: NS*UZXYTT*5100BSD; PowerWise: N; CompType: MiscPower; High-Reliability: Y; DatasheetVersion: Jun-2009; PackageVersion: revA, May-2003; PackageReference: SDC10A; PackageDescription: LLP, Plastic, Dual, 4 x 4 x 0.8mm Body, 10 Lead, 0.8mm Pitch, No Pullback; RoHS: Y; PinCount: 10; ComponentLink1Description: Manufacturer URL; ComponentLink1URL: http://www.national.com/; ComponentLink2Description: LM5100B Datasheet; ComponentLink2URL: http://www.national.com/ds/LM/LM5100B.pdf; ComponentLink3Description: LM5100B Web Page; ComponentLink3URL: http://www.national.com/pf/LM/LM5100B.html; ComponentLink4Description: SDC10A Package Page; ComponentLink4URL: http://www.national.com/packaging/folders/sdc10a.html
footprint SDC10A (SON, 10-Leads, Body 4x4 mm, Pitch 0.8mm, NSC Recommended)
pins: 1 VDD (power), 2 HB (in), 3 HO (out), 4 HS (in), 5 NC, 6 NC, 7 HI (in), 8 LI (in), 9 VSS (power), 10 LO (out), 11 EP (power)

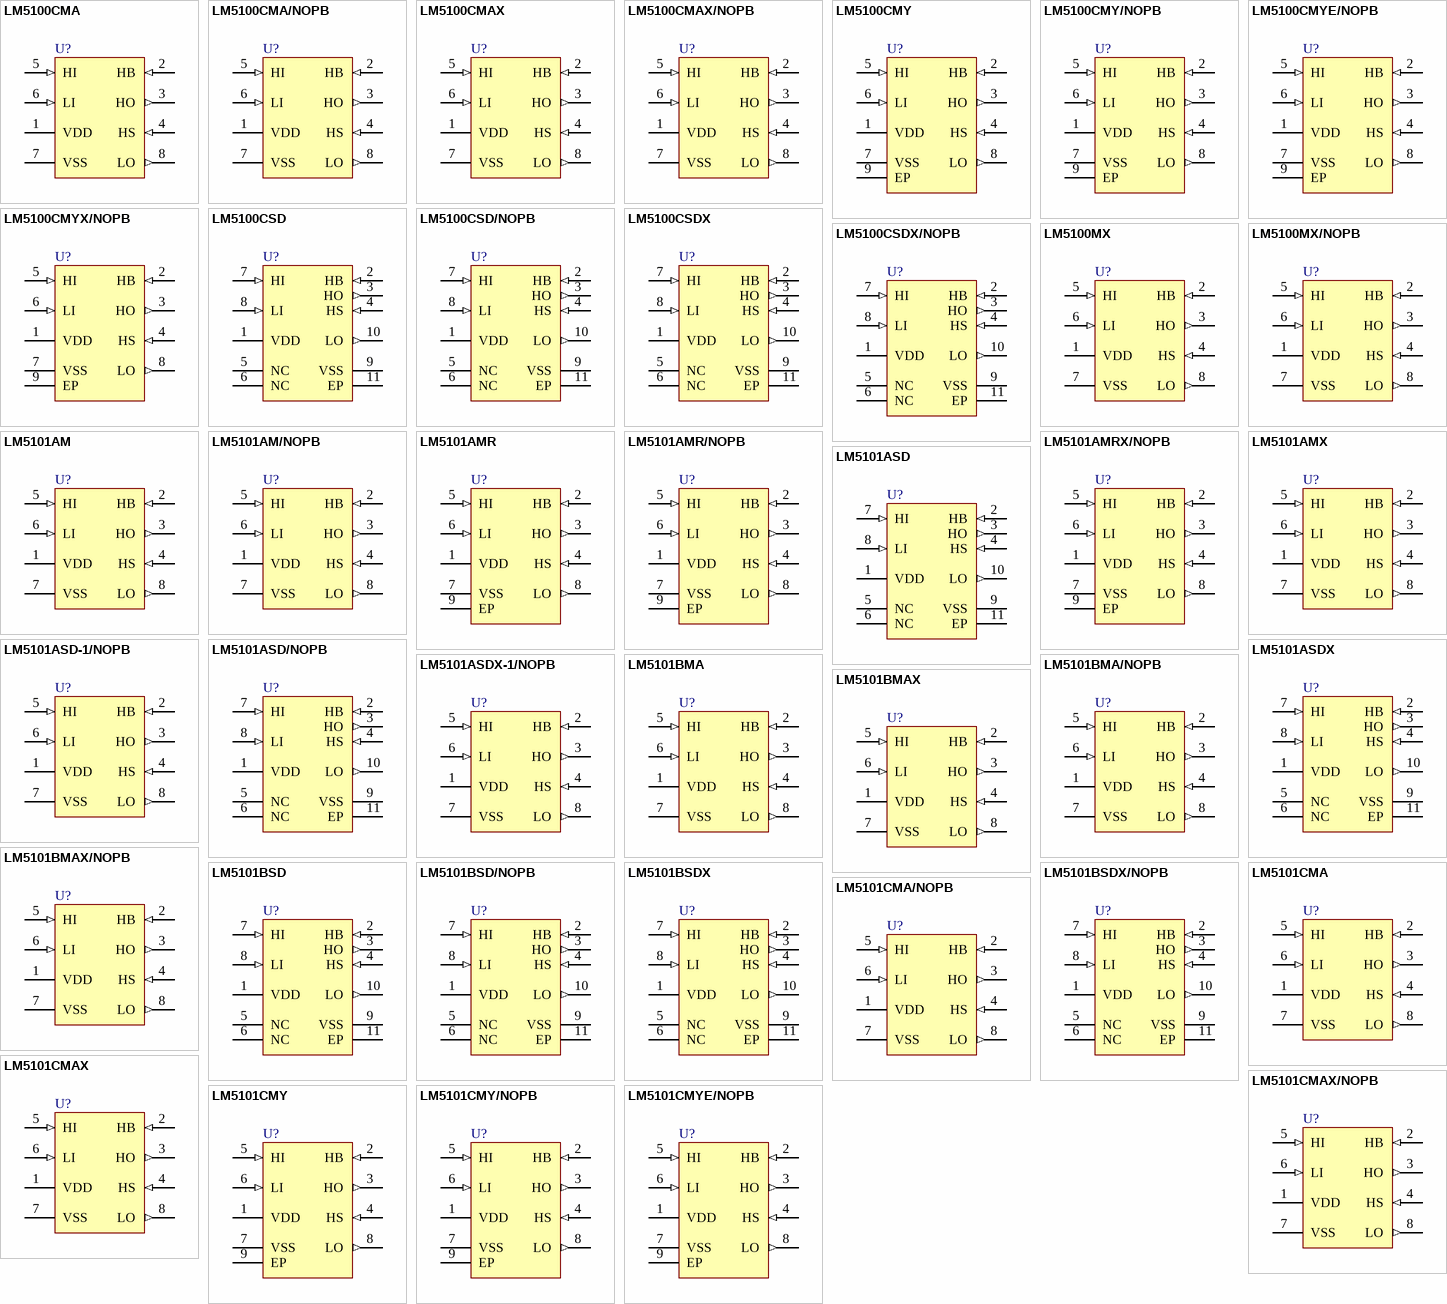
[diagram p29: symbols LM5100CMA to LM5101CMYE/NOPB]

## LM5100CMA
designator U?
1A High Voltage High-Side and Low-Side Gate Driver, 8-pin Narrow SOIC; PartNumber: LM5100CMA; Manufacturer: National Semiconductor; PackageTopMarking: NSZXTT*L5100*CMA; PowerWise: N; CompType: MiscPower; High-Reliability: Y; DatasheetVersion: Jun-2009; PackageVersion: revM, May-2009; PackageReference: M08A; PackageDescription: SOIC Narrow, 4.9 x 3.9 x 1.45mm, 8 Lead, 1.27mm Pitch; RoHS: N; PinCount: 8; Code_JEDEC: MS-012-AA; Code_IPC: SOIC127P600-8; ComponentLink1Description: Manufacturer URL; ComponentLink1URL: http://www.national.com/; ComponentLink2Description: LM5100C Datasheet; ComponentLink2URL: http://www.national.com/ds/LM/LM5100C.pdf; ComponentLink3Description: LM5100C Web Page; ComponentLink3URL: http://www.national.com/pf/LM/LM5100C.html; ComponentLink4Description: M08A Package Page; ComponentLink4URL: http://www.national.com/packaging/folders/m08a.html
footprint M08A_N (SOIC, 8-Leads, Body 4.9x3.9mm, Pitch 1.27mm, IPC Medium Density)
footprint M08A_L (SOIC, 8-Leads, Body 4.9x3.9mm, Pitch 1.27mm, IPC High Density)
footprint M08A_M (SOIC, 8-Leads, Body 4.9x3.9mm, Pitch 1.27mm, IPC Low Density)
pins: 1 VDD (power), 2 HB (in), 3 HO (out), 4 HS (in), 5 HI (in), 6 LI (in), 7 VSS (power), 8 LO (out)

## LM5100CMA/NOPB
designator U?
1A High Voltage High-Side and Low-Side Gate Driver, 8-pin Narrow SOIC, Pb-Free; PartNumber: LM5100CMA/NOPB; Manufacturer: National Semiconductor; PackageTopMarking: NSZXTT*L5100*CMA; PowerWise: N; CompType: MiscPower; High-Reliability: Y; DatasheetVersion: Jun-2009; PackageVersion: revM, May-2009; PackageReference: M08A; PackageDescription: SOIC Narrow, 4.9 x 3.9 x 1.45mm, 8 Lead, 1.27mm Pitch; RoHS: Y; PinCount: 8; Code_JEDEC: MS-012-AA; Code_IPC: SOIC127P600-8; ComponentLink1Description: Manufacturer URL; ComponentLink1URL: http://www.national.com/; ComponentLink2Description: LM5100C Datasheet; ComponentLink2URL: http://www.national.com/ds/LM/LM5100C.pdf; ComponentLink3Description: LM5100C Web Page; ComponentLink3URL: http://www.national.com/pf/LM/LM5100C.html; ComponentLink4Description: M08A Package Page; ComponentLink4URL: http://www.national.com/packaging/folders/m08a.html
footprint M08A_N (SOIC, 8-Leads, Body 4.9x3.9mm, Pitch 1.27mm, IPC Medium Density)
footprint M08A_L (SOIC, 8-Leads, Body 4.9x3.9mm, Pitch 1.27mm, IPC High Density)
footprint M08A_M (SOIC, 8-Leads, Body 4.9x3.9mm, Pitch 1.27mm, IPC Low Density)
pins: 1 VDD (power), 2 HB (in), 3 HO (out), 4 HS (in), 5 HI (in), 6 LI (in), 7 VSS (power), 8 LO (out)

## LM5100CMAX
designator U?
1A High Voltage High-Side and Low-Side Gate Driver, 8-pin Narrow SOIC; PartNumber: LM5100CMAX; Manufacturer: National Semiconductor; PackageTopMarking: NSZXTT*L5100*CMA; PowerWise: N; CompType: MiscPower; High-Reliability: Y; DatasheetVersion: Jun-2009; PackageVersion: revM, May-2009; PackageReference: M08A; PackageDescription: SOIC Narrow, 4.9 x 3.9 x 1.45mm, 8 Lead, 1.27mm Pitch; RoHS: N; PinCount: 8; Code_JEDEC: MS-012-AA; Code_IPC: SOIC127P600-8; ComponentLink1Description: Manufacturer URL; ComponentLink1URL: http://www.national.com/; ComponentLink2Description: LM5100C Datasheet; ComponentLink2URL: http://www.national.com/ds/LM/LM5100C.pdf; ComponentLink3Description: LM5100C Web Page; ComponentLink3URL: http://www.national.com/pf/LM/LM5100C.html; ComponentLink4Description: M08A Package Page; ComponentLink4URL: http://www.national.com/packaging/folders/m08a.html
footprint M08A_N (SOIC, 8-Leads, Body 4.9x3.9mm, Pitch 1.27mm, IPC Medium Density)
footprint M08A_L (SOIC, 8-Leads, Body 4.9x3.9mm, Pitch 1.27mm, IPC High Density)
footprint M08A_M (SOIC, 8-Leads, Body 4.9x3.9mm, Pitch 1.27mm, IPC Low Density)
pins: 1 VDD (power), 2 HB (in), 3 HO (out), 4 HS (in), 5 HI (in), 6 LI (in), 7 VSS (power), 8 LO (out)

## LM5100CMAX/NOPB
designator U?
1A High Voltage High-Side and Low-Side Gate Driver, 8-pin Narrow SOIC, Pb-Free; PartNumber: LM5100CMAX/NOPB; Manufacturer: National Semiconductor; PackageTopMarking: NSZXTT*L5100*CMA; PowerWise: N; CompType: MiscPower; High-Reliability: Y; DatasheetVersion: Jun-2009; PackageVersion: revM, May-2009; PackageReference: M08A; PackageDescription: SOIC Narrow, 4.9 x 3.9 x 1.45mm, 8 Lead, 1.27mm Pitch; RoHS: Y; PinCount: 8; Code_JEDEC: MS-012-AA; Code_IPC: SOIC127P600-8; ComponentLink1Description: Manufacturer URL; ComponentLink1URL: http://www.national.com/; ComponentLink2Description: LM5100C Datasheet; ComponentLink2URL: http://www.national.com/ds/LM/LM5100C.pdf; ComponentLink3Description: LM5100C Web Page; ComponentLink3URL: http://www.national.com/pf/LM/LM5100C.html; ComponentLink4Description: M08A Package Page; ComponentLink4URL: http://www.national.com/packaging/folders/m08a.html
footprint M08A_N (SOIC, 8-Leads, Body 4.9x3.9mm, Pitch 1.27mm, IPC Medium Density)
footprint M08A_L (SOIC, 8-Leads, Body 4.9x3.9mm, Pitch 1.27mm, IPC High Density)
footprint M08A_M (SOIC, 8-Leads, Body 4.9x3.9mm, Pitch 1.27mm, IPC Low Density)
pins: 1 VDD (power), 2 HB (in), 3 HO (out), 4 HS (in), 5 HI (in), 6 LI (in), 7 VSS (power), 8 LO (out)

## LM5100CMY
designator U?
1A High Voltage High-Side and Low-Side Gate Driver, 8-pin eMSOP; PartNumber: LM5100CMY; Manufacturer: National Semiconductor; PackageTopMarking: ZXTT*SXCB; PowerWise: N; CompType: MiscPower; High-Reliability: Y; DatasheetVersion: Jun-2009; PackageVersion: revA, Nov-2003; PackageReference: MUY08A; PackageDescription: Molded Mini-SO, Exposed Pad, .118 x .118 x .034in Body, 8 Lead, .0256in Pitch; RoHS: Y; PinCount: 8; Code_JEDEC: MO-187-AA; ComponentLink1Description: Manufacturer URL; ComponentLink1URL: http://www.national.com/; ComponentLink2Description: LM5100C Datasheet; ComponentLink2URL: http://www.national.com/ds/LM/LM5100A.pdf; ComponentLink3Description: LM5100C Web Page; ComponentLink3URL: http://www.national.com/pf/LM/LM5100C.html; ComponentLink4Description: MUY08A Package Page; ComponentLink4URL: http://www.national.com/packaging/folders/muy08a.html
footprint MUY08A_N (TSOP, 8-Leads, Body 3x3mm, Pitch 0.65mm, Thermal Pad, IPC Medium Density)
footprint MUY08A_L (TSOP, 8-Leads, Body 3x3mm, Pitch 0.65mm, Thermal Pad, IPC High Density)
footprint MUY08A_M (TSOP, 8-Leads, Body 3x3mm, Pitch 0.65mm, Thermal Pad, IPC Low Density)
pins: 1 VDD (power), 2 HB (in), 3 HO (out), 4 HS (in), 5 HI (in), 6 LI (in), 7 VSS (power), 8 LO (out), 9 EP (power)

## LM5100CMY/NOPB
designator U?
1A High Voltage High-Side and Low-Side Gate Driver, 8-pin eMSOP, Pb-Free; PartNumber: LM5100CMY/NOPB; Manufacturer: National Semiconductor; PackageTopMarking: ZXTT*SXCB; PowerWise: N; CompType: MiscPower; High-Reliability: Y; DatasheetVersion: Jun-2009; PackageVersion: revA, Nov-2003; PackageReference: MUY08A; PackageDescription: Molded Mini-SO, Exposed Pad, .118 x .118 x .034in Body, 8 Lead, .0256in Pitch; RoHS: Y; PinCount: 8; Code_JEDEC: MO-187-AA; ComponentLink1Description: Manufacturer URL; ComponentLink1URL: http://www.national.com/; ComponentLink2Description: LM5100C Datasheet; ComponentLink2URL: http://www.national.com/ds/LM/LM5100C.pdf; ComponentLink3Description: LM5100C Web Page; ComponentLink3URL: http://www.national.com/pf/LM/LM5100C.html; ComponentLink4Description: MUY08A Package Page; ComponentLink4URL: http://www.national.com/packaging/folders/muy08a.html
footprint MUY08A_N (TSOP, 8-Leads, Body 3x3mm, Pitch 0.65mm, Thermal Pad, IPC Medium Density)
footprint MUY08A_L (TSOP, 8-Leads, Body 3x3mm, Pitch 0.65mm, Thermal Pad, IPC High Density)
footprint MUY08A_M (TSOP, 8-Leads, Body 3x3mm, Pitch 0.65mm, Thermal Pad, IPC Low Density)
pins: 1 VDD (power), 2 HB (in), 3 HO (out), 4 HS (in), 5 HI (in), 6 LI (in), 7 VSS (power), 8 LO (out), 9 EP (power)

## LM5100CMYE/NOPB
designator U?
1A High Voltage High-Side and Low-Side Gate Driver, 8-pin eMSOP, Pb-Free; PartNumber: LM5100CMYE/NOPB; Manufacturer: National Semiconductor; PackageTopMarking: ZXTT*SXCB; PowerWise: N; CompType: MiscPower; High-Reliability: Y; DatasheetVersion: Jun-2009; PackageVersion: revA, Nov-2003; PackageReference: MUY08A; PackageDescription: Molded Mini-SO, Exposed Pad, .118 x .118 x .034in Body, 8 Lead, .0256in Pitch; RoHS: Y; PinCount: 8; Code_JEDEC: MO-187-AA; ComponentLink1Description: Manufacturer URL; ComponentLink1URL: http://www.national.com/; ComponentLink2Description: LM5100C Datasheet; ComponentLink2URL: http://www.national.com/ds/LM/LM5100C.pdf; ComponentLink3Description: LM5100C Web Page; ComponentLink3URL: http://www.national.com/pf/LM/LM5100C.html; ComponentLink4Description: MUY08A Package Page; ComponentLink4URL: http://www.national.com/packaging/folders/muy08a.html
footprint MUY08A_N (TSOP, 8-Leads, Body 3x3mm, Pitch 0.65mm, Thermal Pad, IPC Medium Density)
footprint MUY08A_L (TSOP, 8-Leads, Body 3x3mm, Pitch 0.65mm, Thermal Pad, IPC High Density)
footprint MUY08A_M (TSOP, 8-Leads, Body 3x3mm, Pitch 0.65mm, Thermal Pad, IPC Low Density)
pins: 1 VDD (power), 2 HB (in), 3 HO (out), 4 HS (in), 5 HI (in), 6 LI (in), 7 VSS (power), 8 LO (out), 9 EP (power)

## LM5100CMYX/NOPB
designator U?
1A High Voltage High-Side and Low-Side Gate Driver, 8-pin eMSOP, Pb-Free; PartNumber: LM5100CMYX/NOPB; Manufacturer: National Semiconductor; PackageTopMarking: ZXTT*SXCB; PowerWise: N; CompType: MiscPower; High-Reliability: Y; DatasheetVersion: Jun-2009; PackageVersion: revA, Nov-2003; PackageReference: MUY08A; PackageDescription: Molded Mini-SO, Exposed Pad, .118 x .118 x .034in Body, 8 Lead, .0256in Pitch; RoHS: Y; PinCount: 8; Code_JEDEC: MO-187-AA; ComponentLink1Description: Manufacturer URL; ComponentLink1URL: http://www.national.com/; ComponentLink2Description: LM5100C Datasheet; ComponentLink2URL: http://www.national.com/ds/LM/LM5100C.pdf; ComponentLink3Description: LM5100C Web Page; ComponentLink3URL: http://www.national.com/pf/LM/LM5100C.html; ComponentLink4Description: MUY08A Package Page; ComponentLink4URL: http://www.national.com/packaging/folders/muy08a.html
footprint MUY08A_N (TSOP, 8-Leads, Body 3x3mm, Pitch 0.65mm, Thermal Pad, IPC Medium Density)
footprint MUY08A_L (TSOP, 8-Leads, Body 3x3mm, Pitch 0.65mm, Thermal Pad, IPC High Density)
footprint MUY08A_M (TSOP, 8-Leads, Body 3x3mm, Pitch 0.65mm, Thermal Pad, IPC Low Density)
pins: 1 VDD (power), 2 HB (in), 3 HO (out), 4 HS (in), 5 HI (in), 6 LI (in), 7 VSS (power), 8 LO (out), 9 EP (power)

## LM5100CSD
designator U?
1A High Voltage High-Side and Low-Side Gate Driver, 10-pin LLP; PartNumber: LM5100CSD; Manufacturer: National Semiconductor; PackageTopMarking: NS*UZXYTT*5100CSD; PowerWise: N; CompType: MiscPower; High-Reliability: Y; DatasheetVersion: Jun-2009; PackageVersion: revA, May-2003; PackageReference: SDC10A; PackageDescription: LLP, Plastic, Dual, 4 x 4 x 0.8mm Body, 10 Lead, 0.8mm Pitch, No Pullback; RoHS: N; PinCount: 10; ComponentLink1Description: Manufacturer URL; ComponentLink1URL: http://www.national.com/; ComponentLink2Description: LM5100C Datasheet; ComponentLink2URL: http://www.national.com/ds/LM/LM5100C.pdf; ComponentLink3Description: LM5100C Web Page; ComponentLink3URL: http://www.national.com/pf/LM/LM5100C.html; ComponentLink4Description: SDC10A Package Page; ComponentLink4URL: http://www.national.com/packaging/folders/sdc10a.html
footprint SDC10A (SON, 10-Leads, Body 4x4 mm, Pitch 0.8mm, NSC Recommended)
pins: 1 VDD (power), 2 HB (in), 3 HO (out), 4 HS (in), 5 NC, 6 NC, 7 HI (in), 8 LI (in), 9 VSS (power), 10 LO (out), 11 EP (power)

## LM5100CSD/NOPB
designator U?
1A High Voltage High-Side and Low-Side Gate Driver, 10-pin LLP, Pb-Free; PartNumber: LM5100CSD/NOPB; Manufacturer: National Semiconductor; PackageTopMarking: NS*UZXYTT*5100CSD; PowerWise: N; CompType: MiscPower; High-Reliability: Y; DatasheetVersion: Jun-2009; PackageVersion: revA, May-2003; PackageReference: SDC10A; PackageDescription: LLP, Plastic, Dual, 4 x 4 x 0.8mm Body, 10 Lead, 0.8mm Pitch, No Pullback; RoHS: Y; PinCount: 10; ComponentLink1Description: Manufacturer URL; ComponentLink1URL: http://www.national.com/; ComponentLink2Description: LM5100C Datasheet; ComponentLink2URL: http://www.national.com/ds/LM/LM5100C.pdf; ComponentLink3Description: LM5100C Web Page; ComponentLink3URL: http://www.national.com/pf/LM/LM5100C.html; ComponentLink4Description: SDC10A Package Page; ComponentLink4URL: http://www.national.com/packaging/folders/sdc10a.html
footprint SDC10A (SON, 10-Leads, Body 4x4 mm, Pitch 0.8mm, NSC Recommended)
pins: 1 VDD (power), 2 HB (in), 3 HO (out), 4 HS (in), 5 NC, 6 NC, 7 HI (in), 8 LI (in), 9 VSS (power), 10 LO (out), 11 EP (power)

## LM5100CSDX
designator U?
1A High Voltage High-Side and Low-Side Gate Driver, 10-pin LLP; PartNumber: LM5100CSDX; Manufacturer: National Semiconductor; PackageTopMarking: NS*UZXYTT*5100CSD; PowerWise: N; CompType: MiscPower; High-Reliability: Y; DatasheetVersion: Jun-2009; PackageVersion: revA, May-2003; PackageReference: SDC10A; PackageDescription: LLP, Plastic, Dual, 4 x 4 x 0.8mm Body, 10 Lead, 0.8mm Pitch, No Pullback; RoHS: N; PinCount: 10; ComponentLink1Description: Manufacturer URL; ComponentLink1URL: http://www.national.com/; ComponentLink2Description: LM5100C Datasheet; ComponentLink2URL: http://www.national.com/ds/LM/LM5100C.pdf; ComponentLink3Description: LM5100C Web Page; ComponentLink3URL: http://www.national.com/pf/LM/LM5100C.html; ComponentLink4Description: SDC10A Package Page; ComponentLink4URL: http://www.national.com/packaging/folders/sdc10a.html
footprint SDC10A (SON, 10-Leads, Body 4x4 mm, Pitch 0.8mm, NSC Recommended)
pins: 1 VDD (power), 2 HB (in), 3 HO (out), 4 HS (in), 5 NC, 6 NC, 7 HI (in), 8 LI (in), 9 VSS (power), 10 LO (out), 11 EP (power)

## LM5100CSDX/NOPB
designator U?
1A High Voltage High-Side and Low-Side Gate Driver, 10-pin LLP, Pb-Free; PartNumber: LM5100CSDX/NOPB; Manufacturer: National Semiconductor; PackageTopMarking: NS*UZXYTT*5100CSD; PowerWise: N; CompType: MiscPower; High-Reliability: Y; DatasheetVersion: Jun-2009; PackageVersion: revA, May-2003; PackageReference: SDC10A; PackageDescription: LLP, Plastic, Dual, 4 x 4 x 0.8mm Body, 10 Lead, 0.8mm Pitch, No Pullback; RoHS: Y; PinCount: 10; ComponentLink1Description: Manufacturer URL; ComponentLink1URL: http://www.national.com/; ComponentLink2Description: LM5100C Datasheet; ComponentLink2URL: http://www.national.com/ds/LM/LM5100C.pdf; ComponentLink3Description: LM5100C Web Page; ComponentLink3URL: http://www.national.com/pf/LM/LM5100C.html; ComponentLink4Description: SDC10A Package Page; ComponentLink4URL: http://www.national.com/packaging/folders/sdc10a.html
footprint SDC10A (SON, 10-Leads, Body 4x4 mm, Pitch 0.8mm, NSC Recommended)
pins: 1 VDD (power), 2 HB (in), 3 HO (out), 4 HS (in), 5 NC, 6 NC, 7 HI (in), 8 LI (in), 9 VSS (power), 10 LO (out), 11 EP (power)

## LM5100MX
designator U?
High Voltage High Side and Low Side Gate Driver, 8 pin SOIC NARROW; PartNumber: LM5100MX; Manufacturer: National Semiconductor; PackageTopMarking: NSZXTT*5100*M; PowerWise: N; CompType: MiscPower; High-Reliability: Y; DatasheetVersion: Mar-2005; PackageVersion: revM, May-2009; PackageReference: M08A; PackageDescription: SOIC Narrow, 4.9 x 3.9 x 1.45mm, 8 Lead, 1.27mm Pitch; RoHS: N; PinCount: 8; Code_JEDEC: MS-012-AA; Code_IPC: SOIC127P600-8; ComponentLink1Description: Manufacturer URL; ComponentLink1URL: http://www.national.com/; ComponentLink2Description: LM5100 Datasheet; ComponentLink2URL: http://www.national.com/ds/LM/LM5100.pdf; ComponentLink3Description: LM5100 Web Page; ComponentLink3URL: http://www.national.com/pf/LM/LM5100.html; ComponentLink4Description: M08A Package Page; ComponentLink4URL: http://www.national.com/packaging/folders/m08a.html
footprint M08A_N (SOIC, 8-Leads, Body 4.9x3.9mm, Pitch 1.27mm, IPC Medium Density)
footprint M08A_L (SOIC, 8-Leads, Body 4.9x3.9mm, Pitch 1.27mm, IPC High Density)
footprint M08A_M (SOIC, 8-Leads, Body 4.9x3.9mm, Pitch 1.27mm, IPC Low Density)
pins: 1 VDD (power), 2 HB (in), 3 HO (out), 4 HS (in), 5 HI (in), 6 LI (in), 7 VSS (power), 8 LO (out)

## LM5100MX/NOPB
designator U?
High Voltage High Side and Low Side Gate Driver, 8 pin SOIC NARROW; PartNumber: LM5100MX/NOPB; Manufacturer: National Semiconductor; PackageTopMarking: NSZXTT*5100*M; PowerWise: N; CompType: MiscPower; High-Reliability: Y; DatasheetVersion: Mar-2005; PackageVersion: revM, May-2009; PackageReference: M08A; PackageDescription: SOIC Narrow, 4.9 x 3.9 x 1.45mm, 8 Lead, 1.27mm Pitch; RoHS: Y; PinCount: 8; Code_JEDEC: MS-012-AA; Code_IPC: SOIC127P600-8; ComponentLink1Description: Manufacturer URL; ComponentLink1URL: http://www.national.com/; ComponentLink2Description: LM5100 Datasheet; ComponentLink2URL: http://www.national.com/ds/LM/LM5100.pdf; ComponentLink3Description: LM5100 Web Page; ComponentLink3URL: http://www.national.com/pf/LM/LM5100.html; ComponentLink4Description: M08A Package Page; ComponentLink4URL: http://www.national.com/packaging/folders/m08a.html
footprint M08A_N (SOIC, 8-Leads, Body 4.9x3.9mm, Pitch 1.27mm, IPC Medium Density)
footprint M08A_L (SOIC, 8-Leads, Body 4.9x3.9mm, Pitch 1.27mm, IPC High Density)
footprint M08A_M (SOIC, 8-Leads, Body 4.9x3.9mm, Pitch 1.27mm, IPC Low Density)
pins: 1 VDD (power), 2 HB (in), 3 HO (out), 4 HS (in), 5 HI (in), 6 LI (in), 7 VSS (power), 8 LO (out)

## LM5101AM
designator U?
3A High Voltage High-Side and Low-Side Gate Driver, 8-pin Narrow SOIC; PartNumber: LM5101AM; Manufacturer: National Semiconductor; PackageTopMarking: NSZXTT*L5101*AM; PowerWise: N; CompType: MiscPower; High-Reliability: Y; DatasheetVersion: Aug-2010; PackageVersion: revM, May-2009; PackageReference: M08A; PackageDescription: SOIC Narrow, 4.9 x 3.9 x 1.45mm, 8 Lead, 1.27mm Pitch; RoHS: N; PinCount: 8; Code_JEDEC: MS-012-AA; Code_IPC: SOIC127P600-8; ComponentLink1Description: Manufacturer URL; ComponentLink1URL: http://www.national.com/; ComponentLink2Description: LM5101A Datasheet; ComponentLink2URL: http://www.national.com/ds/LM/LM5101A.pdf; ComponentLink3Description: LM5101A Web Page; ComponentLink3URL: http://www.national.com/pf/LM/LM5101A.html; ComponentLink4Description: M08A Package Page; ComponentLink4URL: http://www.national.com/packaging/folders/m08a.html
footprint M08A_N (SOIC, 8-Leads, Body 4.9x3.9mm, Pitch 1.27mm, IPC Medium Density)
footprint M08A_L (SOIC, 8-Leads, Body 4.9x3.9mm, Pitch 1.27mm, IPC High Density)
footprint M08A_M (SOIC, 8-Leads, Body 4.9x3.9mm, Pitch 1.27mm, IPC Low Density)
pins: 1 VDD (power), 2 HB (in), 3 HO (out), 4 HS (in), 5 HI (in), 6 LI (in), 7 VSS (power), 8 LO (out)

## LM5101AM/NOPB
designator U?
3A High Voltage High-Side and Low-Side Gate Driver, 8-pin Narrow SOIC, Pb-Free; PartNumber: LM5101AM/NOPB; Manufacturer: National Semiconductor; PackageTopMarking: NSZXTT*L5101*AM; PowerWise: N; CompType: MiscPower; High-Reliability: Y; DatasheetVersion: Aug-2010; PackageVersion: revM, May-2009; PackageReference: M08A; PackageDescription: SOIC Narrow, 4.9 x 3.9 x 1.45mm, 8 Lead, 1.27mm Pitch; RoHS: Y; PinCount: 8; Code_JEDEC: MS-012-AA; Code_IPC: SOIC127P600-8; ComponentLink1Description: Manufacturer URL; ComponentLink1URL: http://www.national.com/; ComponentLink2Description: LM5101A Datasheet; ComponentLink2URL: http://www.national.com/ds/LM/LM5101A.pdf; ComponentLink3Description: LM5101A Web Page; ComponentLink3URL: http://www.national.com/pf/LM/LM5101A.html; ComponentLink4Description: M08A Package Page; ComponentLink4URL: http://www.national.com/packaging/folders/m08a.html
footprint M08A_N (SOIC, 8-Leads, Body 4.9x3.9mm, Pitch 1.27mm, IPC Medium Density)
footprint M08A_L (SOIC, 8-Leads, Body 4.9x3.9mm, Pitch 1.27mm, IPC High Density)
footprint M08A_M (SOIC, 8-Leads, Body 4.9x3.9mm, Pitch 1.27mm, IPC Low Density)
pins: 1 VDD (power), 2 HB (in), 3 HO (out), 4 HS (in), 5 HI (in), 6 LI (in), 7 VSS (power), 8 LO (out)